# Altium footprint library SIGMA_2D.PcbLib: 200 footprints (part 5 of 13)
Each footprint in its own frame and in the unit in brackets; x right, y up, seen from the top. Pads: shape width x height; smd on the part's side, far side on the other; paste and mask are expansions set on the pad; w line width, h text height; cw(c..) or ccw(c..) is an arc to the next point about the centre after c.
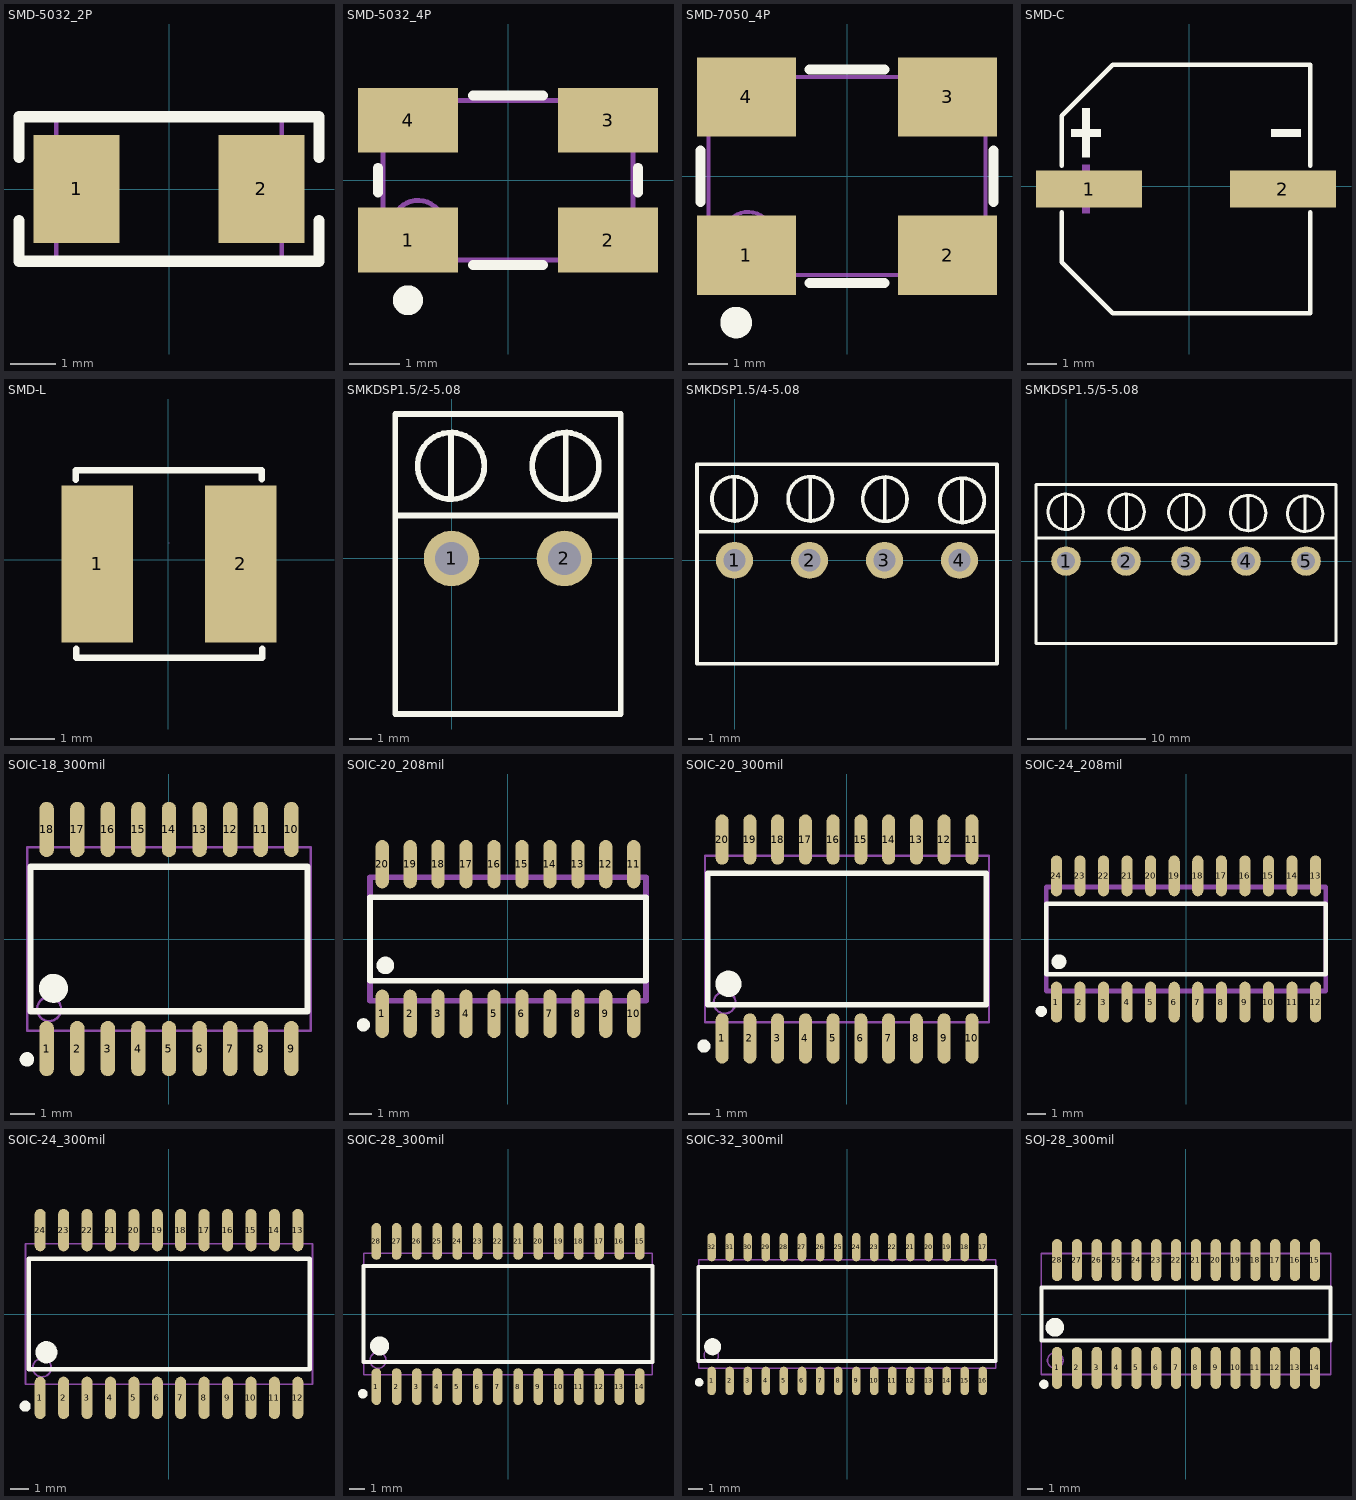
[diagram p4: the footprints below, top view; thin cyan lines are the x and y axes]

## SMD-5032_2P [mm]
pads (2):
  rect 1.9x2.4 smd: 1(-2.05,0) 2(2.05,0)
Top Overlay:
  lines w0.254: -3.325,-0.7 -3.325,-1.6 3.325,-1.6 3.325,-0.7 ; -3.325,0.7 -3.325,1.6 3.325,1.6 3.325,0.7
Mechanical 13:
  lines w0.1: -2.5,-1.6 -2.5,1.6 2.5,1.6 2.5,-1.6 -2.5,-1.6

## SMD-5032_4P [mm]
pads (4):
  rect 2x1.3 smd: 1(-2,-1.2) 2(2,-1.2) 3(2,1.2) 4(-2,1.2)
Top Overlay:
  circle w0.3: c-2,-2.4 r0.15
  lines w0.2: -2.6,-0.25 -2.6,0.25 ; -0.7,-1.7 0.7,-1.7 ; -0.7,1.7 0.7,1.7 ; 2.6,-0.25 2.6,0.25
Mechanical 13:
  circle w0.1: c-1.8,-0.9 r0.5
  lines w0.1: -2.5,-1.6 2.5,-1.6 2.5,1.6 -2.5,1.6 -2.5,-1.6

## SMD-7050_4P [mm]
pads (4):
  rect 2.5x2 smd: 1(-2.54,-2) 2(2.54,-2) 3(2.54,2) 4(-2.54,2)
Top Overlay:
  circle w0.4: c-2.8,-3.7 r0.2
  lines w0.254: -3.7,-0.65 -3.7,0.65 ; -0.95,-2.7 0.95,-2.7 ; -0.95,2.7 0.95,2.7 ; 3.7,-0.65 3.7,0.65
Mechanical 13:
  circle w0.1: c-2.5,-1.5 r0.6
  lines w0.1: -3.5,-2.5 -3.5,2.5 3.5,2.5 3.5,-2.5 -3.5,-2.5

## SMD-C [mm] "SMD,8*10.5MM"
pads (2):
  rect 3.61x1.26 smd: 1(-3.402,-0.092) 2(3.188,-0.092)
Top Overlay:
  region: -3.635,0.987 -3.635,2.647 -3.386,2.647 -3.386,0.987
  region: -4.008,1.693 -4.008,1.942 -3.012,1.942 -3.012,1.693
  region: 3.794,1.693 3.794,1.942 2.798,1.942 2.798,1.693
  lines w0.152: -4.333,-0.874 -4.333,-2.582 -2.597,-4.318 4.119,-4.318 4.119,-0.874 ; -4.333,0.691 -4.333,2.398 -2.597,4.134 4.119,4.134 4.119,0.691
Mechanical 15:
  region: -3.635,-0.922 -3.635,0.738 -3.386,0.738 -3.386,-0.922
  region: -4.008,-0.216 -4.008,0.033 -3.012,0.033 -3.012,-0.216
  region: 3.794,-0.216 3.794,0.033 2.798,0.033 2.798,-0.216

## SMD-L [mm] "SMD电感封装"
pads (2):
  rect 1.6x3.5 smd: 1(-1.588,-0.089) 2(1.612,-0.089)
Top Overlay:
  lines w0.15: -2.068,1.791 -2.07,2.006 2.083,2.006 2.082,1.811 ; -2.058,-1.979 -2.058,-2.186 2.095,-2.186 2.092,-1.989
Mechanical 15:
  lines w0.003: 0.012,0.38 0.013,0.381

## SMKDSP1.5/2-5.08 [mm] "斜插绿色接线座5.08mm"
height 15.3
pads (2):
  round 2.5 hole 1.5: 1(0,0) 2(5.08,0)
Top Overlay:
  circle w0.254: c-0.025,4.166 r1.5
  circle w0.254: c5.131,4.166 r1.5
  lines w0.254: -2.54,1.93 7.62,1.93 ; -0.025,2.667 -0.025,5.563 ; 5.131,2.667 5.131,5.563 ; -2.54,-7 -2.54,6.5 7.62,6.5 7.62,-7 -2.54,-7

## SMKDSP1.5/4-5.08 [mm] "斜插绿色接线座5.08mm"
height 15.3
pads (4):
  round 2.5 hole 1.5: 1(0,0) 2(5.08,0) 3(10.16,0) 4(15.24,0)
Top Overlay:
  circle w0.254: c15.418,4.064 r1.5
  circle w0.254: c10.185,4.14 r1.5
  circle w0.254: c5.131,4.166 r1.5
  circle w0.254: c-0.025,4.166 r1.5
  lines w0.254: -2.54,1.93 17.78,1.93 ; -0.025,2.667 -0.025,5.563 ; 5.131,2.667 5.131,5.563 ; 10.185,2.642 10.185,5.537 ; 15.418,2.565 15.418,5.461 ; -2.54,-7 17.78,-7 17.78,6.5 -2.54,6.5 -2.54,-7

## SMKDSP1.5/5-5.08 [mm] "5P斜插绿色接线座5.08mm，需用2P和3P拼接"
height 15.3
pads (5):
  round 2.5 hole 1.5: 1(0,0) 2(5.08,0) 3(10.16,0) 4(15.24,0) 5(20.32,0)
Top Overlay:
  circle w0.254: c20.244,4.013 r1.5
  circle w0.254: c15.418,4.064 r1.5
  circle w0.254: c10.185,4.14 r1.5
  circle w0.254: c5.131,4.166 r1.5
  circle w0.254: c-0.025,4.166 r1.5
  lines w0.254: -2.54,1.93 22.86,1.93 ; -0.025,2.667 -0.025,5.563 ; 5.131,2.667 5.131,5.563 ; 10.185,2.642 10.185,5.537 ; 15.418,2.565 15.418,5.461 ; 20.244,2.515 20.244,5.41 ; -2.54,-7 22.86,-7 22.86,6.5 -2.54,6.5 -2.54,-7

## SOIC-18_300mil [mm]
pads (18):
  oval 0.6x2.3 smd: 1(-5.08,-4.55) 2(-3.81,-4.55) 3(-2.54,-4.55) 4(-1.27,-4.55) 5(0,-4.55) 6(1.27,-4.55) 7(2.54,-4.55) 8(3.81,-4.55) 9(5.08,-4.55) 10(5.08,4.55) 11(3.81,4.55) 12(2.54,4.55) 13(1.27,4.55) 14(0,4.55) 15(-1.27,4.55) 16(-2.54,4.55) 17(-3.81,4.55) 18(-5.08,4.55)
Top Overlay:
  circle w0.3: c-5.9,-5 r0.15
  circle w0.6: c-4.8,-2.05 r0.3
  lines w0.254: -5.75,-3 -5.75,3 5.75,3 5.75,-3 -5.75,-3
Mechanical 13:
  circle w0.1: c-4.98,-2.91 r0.5
  lines w0.1: -5.88,-3.81 -5.88,3.81 5.88,3.81 5.88,-3.81 -5.88,-3.81

## SOIC-20_208mil [mm]
pads (20):
  oval 0.6x2.2 smd: 1(-5.715,-3.4) 2(-4.445,-3.4) 3(-3.175,-3.4) 4(-1.905,-3.4) 5(-0.635,-3.4) 6(0.635,-3.4) 7(1.905,-3.4) 8(3.175,-3.4) 9(4.445,-3.4) 10(5.715,-3.4) 11(5.715,3.4) 12(4.445,3.4) 13(3.175,3.4) 14(1.905,3.4) 15(0.635,3.4) 16(-0.635,3.4) 17(-1.905,3.4) 18(-3.175,3.4) 19(-4.445,3.4) 20(-5.715,3.4)
Top Overlay:
  circle w0.4: c-5.57,-1.2 r0.2
  circle w0.3: c-6.57,-3.9 r0.15
  lines w0.254: -6.27,-1.9 -6.27,1.9 6.27,1.9 6.27,-1.9 -6.27,-1.9
Mechanical 13:
  lines w0.254: -6.27,-2.8 -6.27,2.8 6.27,2.8 6.27,-2.8 -6.27,-2.8

## SOIC-20_300mil [mm]
pads (20):
  oval 0.6x2.3 smd: 1(-5.715,-4.55) 2(-4.445,-4.55) 3(-3.175,-4.55) 4(-1.905,-4.55) 5(-0.635,-4.55) 6(0.635,-4.55) 7(1.905,-4.55) 8(3.175,-4.55) 9(4.445,-4.55) 10(5.715,-4.55) 11(5.715,4.55) 12(4.445,4.55) 13(3.175,4.55) 14(1.905,4.55) 15(0.635,4.55) 16(-0.635,4.55) 17(-1.905,4.55) 18(-3.175,4.55) 19(-4.445,4.55) 20(-5.715,4.55)
Top Overlay:
  circle w0.3: c-6.55,-4.9 r0.15
  circle w0.6: c-5.425,-2.05 r0.3
  lines w0.254: -6.375,-3 -6.375,3 6.375,3 6.375,-3 -6.375,-3
Mechanical 13:
  circle w0.1: c-5.6,-2.91 r0.5
  lines w0.1: -6.5,-3.81 -6.5,3.81 6.5,3.81 6.5,-3.81 -6.5,-3.81

## SOIC-24_208mil [mm]
pads (24):
  oval 0.6x2.2 smd: 1(-6.985,-3.4) 2(-5.715,-3.4) 3(-4.445,-3.4) 4(-3.175,-3.4) 5(-1.905,-3.4) 6(-0.635,-3.4) 7(0.635,-3.4) 8(1.905,-3.4) 9(3.175,-3.4) 10(4.445,-3.4) 11(5.715,-3.4) 12(6.985,-3.4) 13(6.985,3.4) 14(5.715,3.4) 15(4.445,3.4) 16(3.175,3.4) 17(1.905,3.4) 18(0.635,3.4) 19(-0.635,3.4) 20(-1.905,3.4) 21(-3.175,3.4) 22(-4.445,3.4) 23(-5.715,3.4) 24(-6.985,3.4)
Top Overlay:
  circle w0.3: c-7.8,-3.9 r0.15
  circle w0.4: c-6.85,-1.225 r0.2
  lines w0.254: -7.54,-1.9 7.54,-1.9 7.54,1.9 -7.54,1.9 -7.54,-1.9
Mechanical 13:
  lines w0.254: -7.54,-2.8 7.54,-2.8 7.54,2.8 -7.54,2.8 -7.54,-2.8

## SOIC-24_300mil [mm]
pads (24):
  oval 0.6x2.3 smd: 1(-6.985,-4.55) 2(-5.715,-4.55) 3(-4.445,-4.55) 4(-3.175,-4.55) 5(-1.905,-4.55) 6(-0.635,-4.55) 7(0.635,-4.55) 8(1.905,-4.55) 9(3.175,-4.55) 10(4.445,-4.55) 11(5.715,-4.55) 12(6.985,-4.55) 13(6.985,4.55) 14(5.715,4.55) 15(4.445,4.55) 16(3.175,4.55) 17(1.905,4.55) 18(0.635,4.55) 19(-0.635,4.55) 20(-1.905,4.55) 21(-3.175,4.55) 22(-4.445,4.55) 23(-5.715,4.55) 24(-6.985,4.55)
Top Overlay:
  circle w0.3: c-7.8,-5 r0.15
  circle w0.6: c-6.65,-2.075 r0.3
  lines w0.254: -7.6,-3 7.625,-3 7.625,3 -7.6,3 -7.6,-3
Mechanical 13:
  circle w0.1: c-6.885,-2.91 r0.5
  lines w0.1: -7.785,-3.81 7.785,-3.81 7.785,3.81 -7.785,3.81 -7.785,-3.81

## SOIC-28_300mil [mm]
pads (28):
  oval 0.6x2.3 smd: 1(-8.255,-4.55) 2(-6.985,-4.55) 3(-5.715,-4.55) 4(-4.445,-4.55) 5(-3.175,-4.55) 6(-1.905,-4.55) 7(-0.635,-4.55) 8(0.635,-4.55) 9(1.905,-4.55) 10(3.175,-4.55) 11(4.445,-4.55) 12(5.715,-4.55) 13(6.985,-4.55) 14(8.255,-4.55) 15(8.255,4.55) 16(6.985,4.55) 17(5.715,4.55) 18(4.445,4.55) 19(3.175,4.55) 20(1.905,4.55) 21(0.635,4.55) 22(-0.635,4.55) 23(-1.905,4.55) 24(-3.175,4.55) 25(-4.445,4.55) 26(-5.715,4.55) 27(-6.985,4.55) 28(-8.255,4.55)
Top Overlay:
  circle w0.6: c-8.05,-2 r0.3
  circle w0.3: c-9.1,-5 r0.15
  lines w0.254: -9.05,-3 9.05,-3 9.05,3 -9.05,3 -9.05,-3
Mechanical 13:
  circle w0.1: c-8.15,-2.9 r0.5
  lines w0.1: -9.05,-3.8 9.05,-3.8 9.05,3.8 -9.05,3.8 -9.05,-3.8

## SOIC-32_300mil [mm]
pads (32):
  oval 0.6x2 smd: 1(-9.525,-4.7) 2(-8.255,-4.7) 3(-6.985,-4.7) 4(-5.715,-4.7) 5(-4.445,-4.7) 6(-3.175,-4.7) 7(-1.905,-4.7) 8(-0.635,-4.7) 9(0.635,-4.7) 10(1.905,-4.7) 11(3.175,-4.7) 12(4.445,-4.7) 13(5.715,-4.7) 14(6.985,-4.7) 15(8.255,-4.7) 16(9.525,-4.7) 17(9.525,4.7) 18(8.255,4.7) 19(6.985,4.7) 20(5.715,4.7) 21(4.445,4.7) 22(3.175,4.7) 23(1.905,4.7) 24(0.635,4.7) 25(-0.635,4.7) 26(-1.905,4.7) 27(-3.175,4.7) 28(-4.445,4.7) 29(-5.715,4.7) 30(-6.985,4.7) 31(-8.255,4.7) 32(-9.525,4.7)
Top Overlay:
  circle w0.6: c-9.45,-2.3 r0.3
  circle w0.3: c-10.4,-4.8 r0.15
  lines w0.254: -10.45,-3.3 -10.45,3.3 10.45,3.3 10.45,-3.3 -10.45,-3.3
Mechanical 13:
  circle w0.1: c-9.54,-2.9 r0.5
  lines w0.1: -10.44,-3.8 -10.44,3.8 10.44,3.8 10.44,-3.8 -10.44,-3.8

## SOJ-28_300mil [mm]
pads (28):
  oval 0.65x2.7 smd: 1(-8.255,-3.45) 2(-6.985,-3.45) 3(-5.715,-3.45) 4(-4.445,-3.45) 5(-3.175,-3.45) 6(-1.905,-3.45) 7(-0.635,-3.45) 8(0.635,-3.45) 9(1.905,-3.45) 10(3.175,-3.45) 11(4.445,-3.45) 12(5.715,-3.45) 13(6.985,-3.45) 14(8.255,-3.45) 15(8.255,3.45) 16(6.985,3.45) 17(5.715,3.45) 18(4.445,3.45) 19(3.175,3.45) 20(1.905,3.45) 21(0.635,3.45) 22(-0.635,3.45) 23(-1.905,3.45) 24(-3.175,3.45) 25(-4.445,3.45) 26(-5.715,3.45) 27(-6.985,3.45) 28(-8.255,3.45)
Top Overlay:
  circle w0.6: c-8.4,-0.85 r0.3
  circle w0.3: c-9.1,-4.5 r0.15
  lines w0.254: -9.25,-1.7 9.25,-1.7 9.25,1.7 -9.25,1.7 -9.25,-1.7
Mechanical 13:
  circle w0.1: c-8.37,-2.975 r0.5
  lines w0.1: -9.27,-3.875 9.27,-3.875 9.27,3.875 -9.27,3.875 -9.27,-3.875